# Altium schematic symbol library lib.SchLib: 13 symbols
Pins are listed as number, name and electrical type; pins without a type are passive.

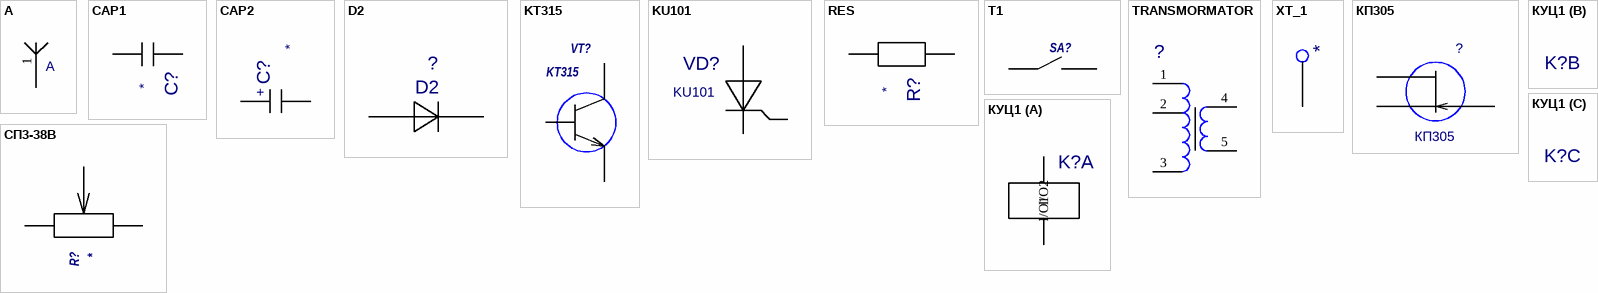
[diagram p0: symbols A to СП3-38В]

## A
designator ?
Value: *
footprint A
pins: 1

## CAP1
designator C?  (value not drawn)
Value: *
footprint CAP1
pins: 1, 2

## CAP2
designator C?  (value not drawn)
Value: *
footprint CAP2
pins: 1, 2
text: +

## D2
designator ?
Value: *
footprint D2
pins: 1 K, 2 A

## KT315
designator VT?
Value: *
footprint КT315
pins: 1, 2, 3

## KU101
designator VD?
Value: *
footprint KU101
pins: 1 I/OA, 2 I/OB, 3 IN

## RES
designator R?  (value not drawn)
Value: *
footprint RES
pins: 1, 2

## T1
designator SA?  (value not drawn)
Value: *
footprint Т1
pins: 1, 2

## TRANSMORMATOR
designator ?  (value not drawn)
Value: *
footprint TRANSFORMATOR
pins: 1, 2, 3, 4, 5

## XT_1
designator ?  (value not drawn)
Value: *
footprint A
pins: 1

## КП305
designator ?
Value: *
footprint КП305
pins: 1, 2, 3

## КУЦ1
designator K?  (value not drawn)
Value: *
footprint KUZ1
part A pins: 1 I/O1, 2 I/O2

## СП3-38В
designator R?  (value not drawn)
Value: *
footprint СП3-38В
pins: 1, 2, 3